# Altium footprint library Usb-C.PcbLib: 1 footprints
Each footprint in its own frame and in the unit in brackets; x right, y up, seen from the top. Pads: shape width x height; smd on the part's side, far side on the other; paste and mask are expansions set on the pad; w line width, h text height; cw(c..) or ccw(c..) is an arc to the next point about the centre after c.
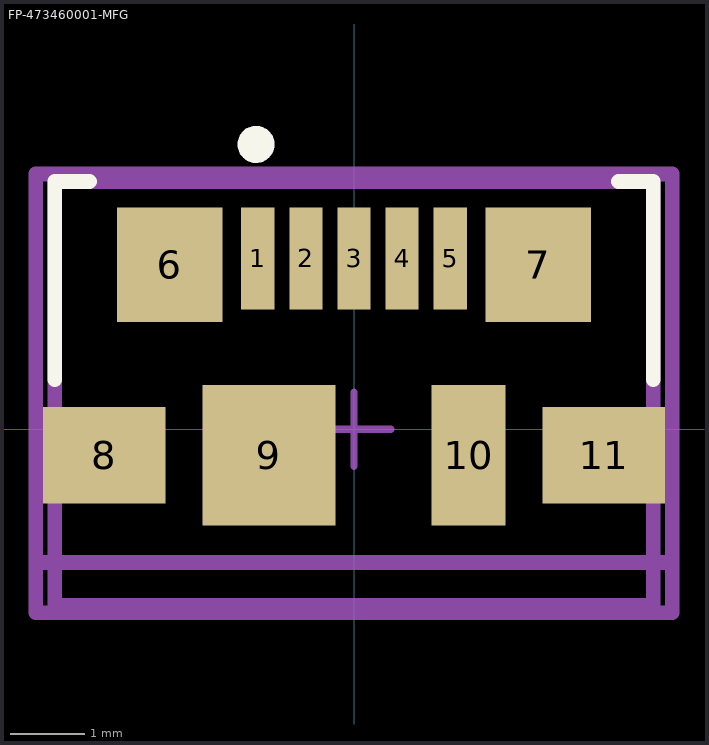
[diagram p0: the footprint, top view; thin cyan lines are the x and y axes]

## FP-473460001-MFG [mm]
pads (11):
  rect 0.45x1.38 smd paste+0 mask+0: 1(-1.3,2.31) 2(-0.65,2.31) 3(0,2.31) 4(0.65,2.31) 5(1.3,2.31)
  rect 1.425x1.55 smd paste+0 mask+0: 6(-2.488,2.225) 7(2.488,2.225)
  rect 1.65x1.3 smd paste+0 mask+0: 8(-3.375,-0.35) 11(3.375,-0.35)
  rect 1.8x1.9 smd paste+0 mask+0: 9(-1.15,-0.35)
  rect 1x1.9 smd paste+0 mask+0: 10(1.55,-0.35)
Top Overlay:
  circle w0.25: c-1.325,3.85 r0.125
  lines w0.2: -4.045,0.675 -4.045,3.35 -3.575,3.35 ; 3.575,3.35 4.045,3.35 4.045,0.675
Top Assembly:
  lines w0.2: -4.3,-2.48 -4.3,3.45 4.3,3.45 4.3,-2.48 -4.3,-2.48
  text ".Designator" at 0,0.673 h1
Top 3D Body:
  lines w0.2: -4.3,-1.8 4.3,-1.8 ; -4.045,-2.38 -4.045,3.35 4.045,3.35 4.045,-2.38 -4.045,-2.38
Top Courtyard:
  lines w0.2: -4.3,-2.48 -4.3,3.45 4.3,3.45 4.3,-2.48 -4.3,-2.48
Top Component Center:
  lines w0.1: -0.5,0 0.5,0 ; 0,-0.5 0,0.5
3D body "Conn_Molex_473460001_eec.STEP": height 0.25, standoff 0, extent -4.3,-2.48 4.3,3.45